# Altium integrated library Analog Devices Switches and Multiplexers Multiplexers (Muxes).IntLib: 481 symbols (part 19 of 23)
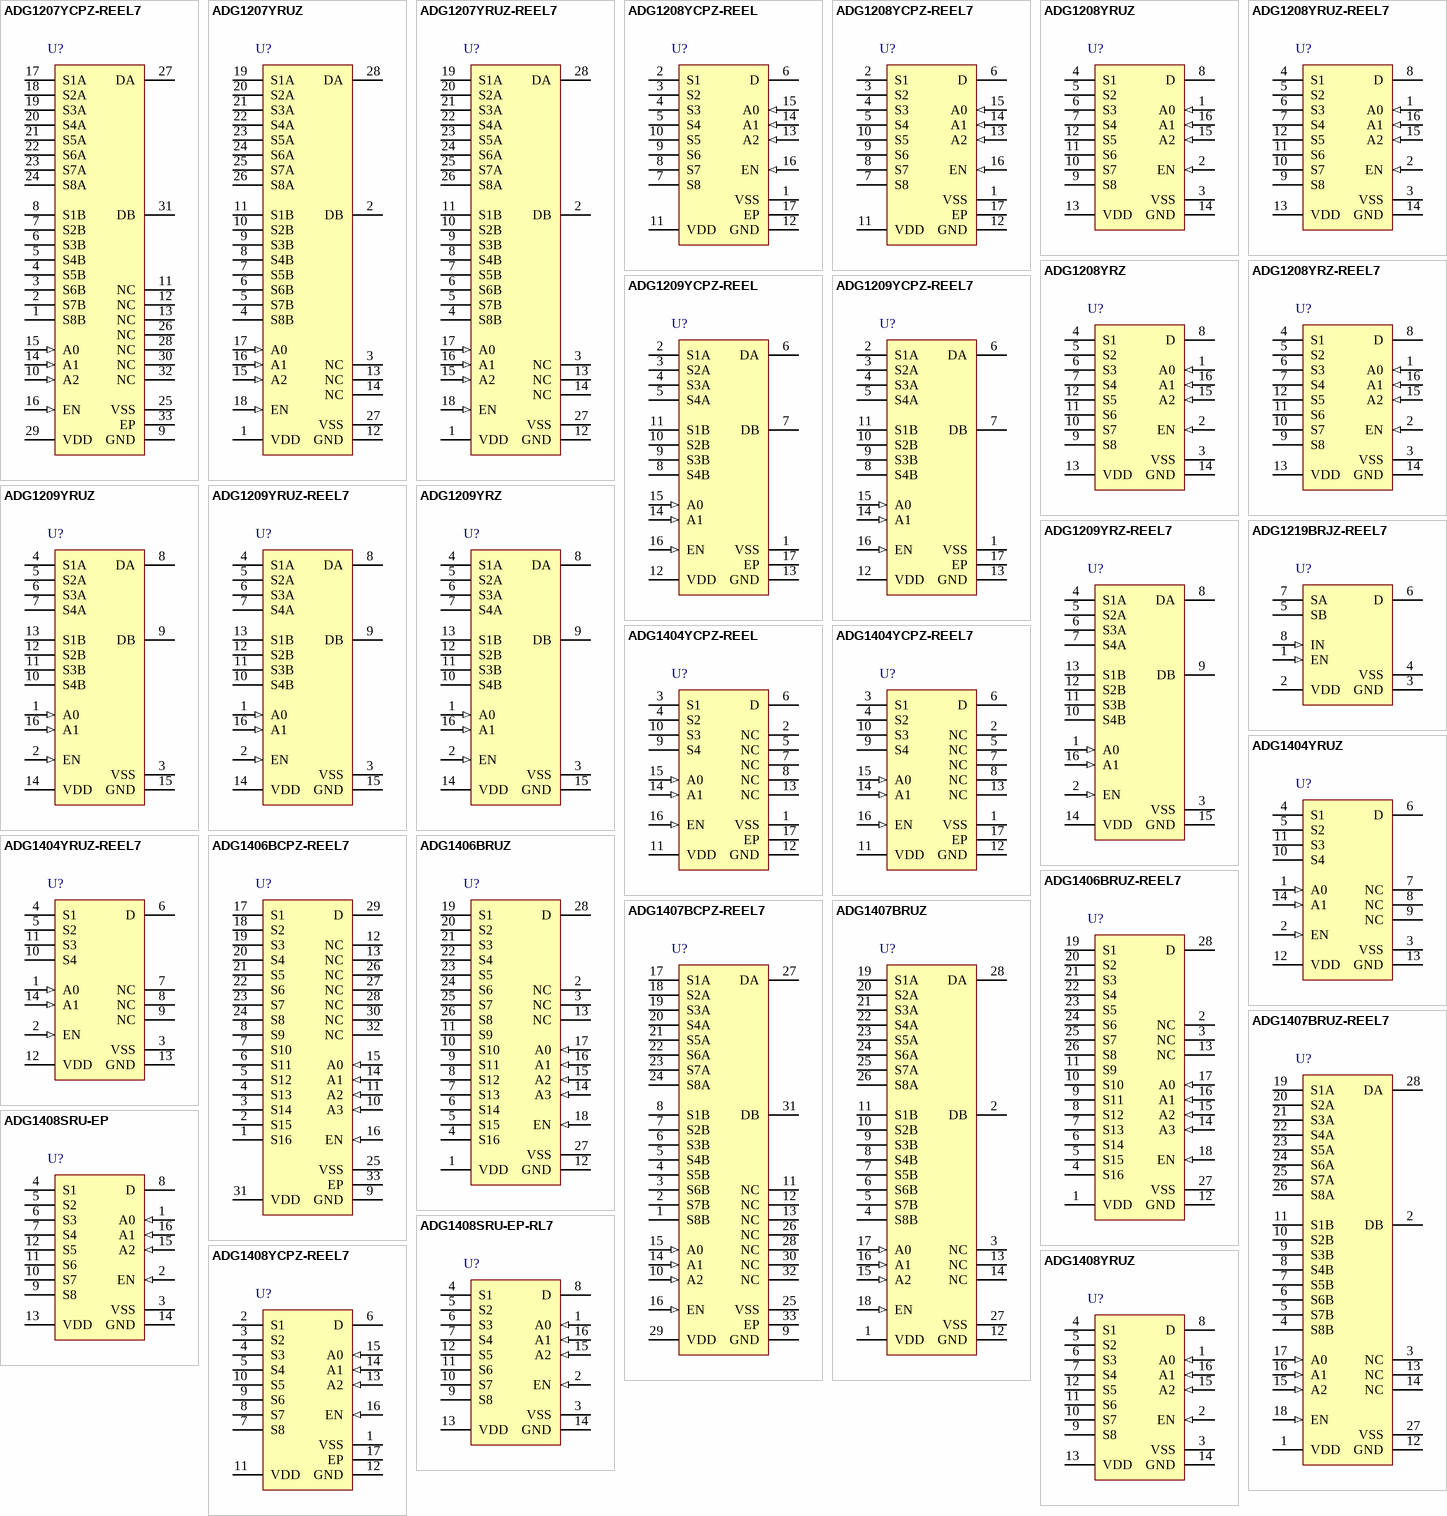
[diagram p35: symbols ADG1207YCPZ-REEL7 to ADG1408YRUZ]

## ADG1207YCPZ-REEL7
designator U?
Low Capacitance, 8-Channel +/-15 V / +12 V iCMOS(TM) Multiplexer, 120 Ohm Ron, 32-pin QFN (CP-32-2), Reel; Manufacturer: Analog Devices; PartNumber: ADG1207YCPZ-REEL7; Bandwidth (Hz): 490M, 300M; Max Analog Signal Range: Vss to Vdd; Ron (ohms): 120; t transition (s): 80n; DatasheetVersion: Rev. A; PackageVersion: Jan-05; PackageReference: CP-32-2; PackageDescription: 32-Pin Lead Frame Chip Scale Package, Body 5 x 5 mm, Pitch 0.5 mm; Supplier 1: Digi-Key; Supplier Part Number 1: ADG1207YCPZ-REEL7TR-ND; Supplier 2: Digi-Key; Supplier Part Number 2: ADG1207YCPZ-REEL7CT-ND; Supplier 3: Digi-Key; Supplier Part Number 3: ADG1207YCPZ-REEL7DKR-ND; Supplier 4: Mouser; Supplier Part Number 4: 584-ADG1207YCPZ-R7; Packing: Reel; Mounting Technology: Surface Mount; Code_JEDEC: MO-220-VHHD-2; ComponentLink1Description: Manufacturer URL; ComponentLink1URL: http://www.analog.com/en/index.html; ComponentLink2Description: Datasheet; ComponentLink2URL: http://www.analog.com/static/imported-files/data_sheets/ADG1206_1207.pdf; ComponentLink3Description: Package Specification; ComponentLink3URL: http://www.analog.com/static/imported-files/packages/414143737956480539664569CP_32_2.pdf
footprint ADI-CP-32-2_N (QFN, 32-Leads, Body 5x5mm, Pitch 0.5mm, Thermal Pad 3.1x3.1mm, IPC Medium Density)
footprint ADI-CP-32-2_L (QFN, 32-Leads, Body 5x5mm, Pitch 0.5mm, Thermal Pad 3.1x3.1mm, IPC High Density)
footprint ADI-CP-32-2_M (QFN, 32-Leads, Body 5x5mm, Pitch 0.5mm, Thermal Pad 3.1x3.1mm, IPC Low Density)
pins: 1 S8B "Source Terminal 8B. Can be an input or an output.", 2 S7B "Source Terminal 7B. Can be an input or an output.", 3 S6B "Source Terminal 6B. Can be an input or an output.", 4 S5B "Source Terminal 5B. Can be an input or an output.", 5 S4B "Source Terminal 4B. Can be an input or an output.", 6 S3B "Source Terminal 3B. Can be an input or an output.", 7 S2B "Source Terminal 2B. Can be an input or an output.", 8 S1B "Source Terminal 1B. Can be an input or an output.", 9 GND (power) "Ground (0 V) Reference.", 10 A2 (in) "Logic Control Input.", 11 NC "No Connect.", 12 NC "No Connect.", 13 NC "No Connect.", 14 A1 (in) "Logic Control Input.", 15 A0 (in) "Logic Control Input.", 16 EN (in) "Active High Digital Input. When this pin is low, the device is disabled and all switches are turned off. When this pin is high, the Ax logic inputs determine which switch is turned on.", 17 S1A "Source Terminal 1A. Can be an input or an output.", 18 S2A "Source Terminal 2A. Can be an input or an output.", 19 S3A "Source Terminal 3A. Can be an input or an output.", 20 S4A "Source Terminal 4A. Can be an input or an output.", 21 S5A "Source Terminal 5A. Can be an input or an output.", 22 S6A "Source Terminal 6A. Can be an input or an output.", 23 S7A "Source Terminal 7A. Can be an input or an output.", 24 S8A "Source Terminal 8A. Can be an input or an output.", 25 VSS (power) "Most Negative Power Supply Potential. In single-supply applications, this pin can be connected to ground.", 26 NC "No Connect.", 27 DA "Drain Terminal A. Can be an input or an output.", 28 NC "No Connect.", 29 VDD (power) "Most Positive Power Supply Potential.", 30 NC "No Connect.", 31 DB "Drain Terminal B. Can be an input or an output.", 32 NC "No Connect.", 33 EP (power) "Exposed Pad Tied to Substrate, Vss."

## ADG1207YRUZ
designator U?
Low Capacitance, 8-Channel +/-15 V / +12 V iCMOS(TM) Multiplexer, 120 Ohm Ron, 28-pin SOP (RU-28), Tube; Manufacturer: Analog Devices; PartNumber: ADG1207YRUZ; Bandwidth (Hz): 490M, 300M; Max Analog Signal Range: Vss to Vdd; Ron (ohms): 120; t transition (s): 80n; DatasheetVersion: Rev. A; PackageVersion: Mar-05; PackageReference: RU-28; PackageDescription: 28-Pin Thin Shrink Small Outline Package, Body 9.7 x 4.4 mm, Pitch 0.65 mm; Supplier 1: Digi-Key; Supplier Part Number 1: ADG1207YRUZ-ND; Supplier 2: Farnell; Supplier Part Number 2: 1438937; Supplier 3: Newark; Supplier Part Number 3: 46M5167; Supplier 4: Mouser; Supplier Part Number 4: 584-ADG1207YRUZ; Packing: Tube; Mounting Technology: Surface Mount; Code_JEDEC: MO-153-AE; ComponentLink1Description: Manufacturer URL; ComponentLink1URL: http://www.analog.com/en/index.html; ComponentLink2Description: Datasheet; ComponentLink2URL: http://www.analog.com/static/imported-files/data_sheets/ADG1206_1207.pdf; ComponentLink3Description: Package Specification; ComponentLink3URL: http://www.analog.com/static/imported-files/packages/249854663RU_28.pdf
footprint ADI-RU-28_N (SOP, 28-Leads, Body 9.7x4.4mm, Pitch 0.65mm, IPC Medium Density)
footprint ADI-RU-28_L (SOP, 28-Leads, Body 9.7x4.4mm, Pitch 0.65mm, IPC High Density)
footprint ADI-RU-28_M (SOP, 28-Leads, Body 9.7x4.4mm, Pitch 0.65mm, IPC Low Density)
pins: 1 VDD (power) "Most Positive Power Supply Potential.", 2 DB "Drain Terminal B. Can be an input or an output.", 3 NC "No Connect.", 4 S8B "Source Terminal 8B. Can be an input or an output.", 5 S7B "Source Terminal 7B. Can be an input or an output.", 6 S6B "Source Terminal 6B. Can be an input or an output.", 7 S5B "Source Terminal 5B. Can be an input or an output.", 8 S4B "Source Terminal 4B. Can be an input or an output.", 9 S3B "Source Terminal 3B. Can be an input or an output.", 10 S2B "Source Terminal 2B. Can be an input or an output.", 11 S1B "Source Terminal 1B. Can be an input or an output.", 12 GND (power) "Ground (0 V) Reference.", 13 NC "No Connect.", 14 NC "No Connect.", 15 A2 (in) "Logic Control Input.", 16 A1 (in) "Logic Control Input.", 17 A0 (in) "Logic Control Input.", 18 EN (in) "Active High Digital Input. When this pin is low, the device is disabled and all switches are turned off. When this pin is high, the Ax logic inputs determine which switch is turned on.", 19 S1A "Source Terminal 1A. Can be an input or an output.", 20 S2A "Source Terminal 2A. Can be an input or an output.", 21 S3A "Source Terminal 3A. Can be an input or an output.", 22 S4A "Source Terminal 4A. Can be an input or an output.", 23 S5A "Source Terminal 5A. Can be an input or an output.", 24 S6A "Source Terminal 6A. Can be an input or an output.", 25 S7A "Source Terminal 7A. Can be an input or an output.", 26 S8A "Source Terminal 8A. Can be an input or an output.", 27 VSS (power) "Most Negative Power Supply Potential. In single-supply applications, this pin can be connected to ground.", 28 DA "Drain Terminal A. Can be an input or an output."

## ADG1207YRUZ-REEL7
designator U?
Low Capacitance, 8-Channel +/-15 V / +12 V iCMOS(TM) Multiplexer, 120 Ohm Ron, 28-pin SOP (RU-28), Reel; Manufacturer: Analog Devices; PartNumber: ADG1207YRUZ-REEL7; Bandwidth (Hz): 490M, 300M; Max Analog Signal Range: Vss to Vdd; Ron (ohms): 120; t transition (s): 80n; DatasheetVersion: Rev. A; PackageVersion: Mar-05; PackageReference: RU-28; PackageDescription: 28-Pin Thin Shrink Small Outline Package, Body 9.7 x 4.4 mm, Pitch 0.65 mm; Supplier 1: Digi-Key; Supplier Part Number 1: ADG1207YRUZ-REEL7-ND; Supplier 2: Newark; Supplier Part Number 2: 46M5168; Supplier 3: Mouser; Supplier Part Number 3: 584-ADG1207YRUZ-R7; Packing: Reel; Mounting Technology: Surface Mount; Code_JEDEC: MO-153-AE; ComponentLink1Description: Manufacturer URL; ComponentLink1URL: http://www.analog.com/en/index.html; ComponentLink2Description: Datasheet; ComponentLink2URL: http://www.analog.com/static/imported-files/data_sheets/ADG1206_1207.pdf; ComponentLink3Description: Package Specification; ComponentLink3URL: http://www.analog.com/static/imported-files/packages/249854663RU_28.pdf
footprint ADI-RU-28_N (SOP, 28-Leads, Body 9.7x4.4mm, Pitch 0.65mm, IPC Medium Density)
footprint ADI-RU-28_L (SOP, 28-Leads, Body 9.7x4.4mm, Pitch 0.65mm, IPC High Density)
footprint ADI-RU-28_M (SOP, 28-Leads, Body 9.7x4.4mm, Pitch 0.65mm, IPC Low Density)
pins: 1 VDD (power) "Most Positive Power Supply Potential.", 2 DB "Drain Terminal B. Can be an input or an output.", 3 NC "No Connect.", 4 S8B "Source Terminal 8B. Can be an input or an output.", 5 S7B "Source Terminal 7B. Can be an input or an output.", 6 S6B "Source Terminal 6B. Can be an input or an output.", 7 S5B "Source Terminal 5B. Can be an input or an output.", 8 S4B "Source Terminal 4B. Can be an input or an output.", 9 S3B "Source Terminal 3B. Can be an input or an output.", 10 S2B "Source Terminal 2B. Can be an input or an output.", 11 S1B "Source Terminal 1B. Can be an input or an output.", 12 GND (power) "Ground (0 V) Reference.", 13 NC "No Connect.", 14 NC "No Connect.", 15 A2 (in) "Logic Control Input.", 16 A1 (in) "Logic Control Input.", 17 A0 (in) "Logic Control Input.", 18 EN (in) "Active High Digital Input. When this pin is low, the device is disabled and all switches are turned off. When this pin is high, the Ax logic inputs determine which switch is turned on.", 19 S1A "Source Terminal 1A. Can be an input or an output.", 20 S2A "Source Terminal 2A. Can be an input or an output.", 21 S3A "Source Terminal 3A. Can be an input or an output.", 22 S4A "Source Terminal 4A. Can be an input or an output.", 23 S5A "Source Terminal 5A. Can be an input or an output.", 24 S6A "Source Terminal 6A. Can be an input or an output.", 25 S7A "Source Terminal 7A. Can be an input or an output.", 26 S8A "Source Terminal 8A. Can be an input or an output.", 27 VSS (power) "Most Negative Power Supply Potential. In single-supply applications, this pin can be connected to ground.", 28 DA "Drain Terminal A. Can be an input or an output."

## ADG1208YCPZ-REEL
designator U?
Low Capacitance, 8-Channel, +/-15 V / +12 V iCMOS Multiplexer, 120 Ohm Ron, 16-pin QFN (CP-16-4), Reel; Manufacturer: Analog Devices; PartNumber: ADG1208YCPZ-REEL; Bandwidth (Hz): 550M, 450M; Max Analog Signal Range: Vss to Vdd; Ron (ohms): 120; t transition (s): 80n; DatasheetVersion: Rev. B; PackageVersion: 010606-0, 01/2006; PackageReference: CP-16-4; PackageDescription: 16-Pin Lead Frame Chip Scale Package, Body 4 x 4 mm, Pitch 0.65 mm; Supplier 1: Digi-Key; Supplier Part Number 1: ADG1208YCPZ-REEL-ND; Supplier 2: Newark; Supplier Part Number 2: 50M0767; Supplier 3: Mouser; Supplier Part Number 3: 584-ADG1208YCPZ-R; Packing: Reel; Mounting Technology: Surface Mount; Code_JEDEC: MO-220-VGGC; ComponentLink1Description: Manufacturer URL; ComponentLink1URL: http://www.analog.com/en/index.html; ComponentLink2Description: Datasheet; ComponentLink2URL: http://www.analog.com/static/imported-files/data_sheets/ADG1208_1209.pdf; ComponentLink3Description: Package Specification; ComponentLink3URL: http://www.analog.com/static/imported-files/packages/46009454504174339653421710019CP_16_4.pdf
footprint CP-16-4_N (QFN, 16-Leads, Body 4x4mm, Pitch 0.65mm, Thermal Pad 2.1x2.1mm, IPC Medium Density)
footprint CP-16-4_L (QFN, 16-Leads, Body 4x4mm, Pitch 0.65mm, Thermal Pad 2.1x2.1mm, IPC High Density)
footprint CP-16-4_M (QFN, 16-Leads, Body 4x4mm, Pitch 0.65mm, Thermal Pad 2.1x2.1mm, IPC Low Density)
pins: 1 VSS (power) "Most Negative Power Supply Potential. In single-supply applications, it can be connected to ground.", 2 S1 "Source Terminal 1. Can be an input or an output.", 3 S2 "Source Terminal 2. Can be an input or an output.", 4 S3 "Source Terminal 3. Can be an input or an output.", 5 S4 "Source Terminal 4. Can be an input or an output.", 6 D "Drain Terminal. Can be an input or an output.", 7 S8 "Source Terminal 8. Can be an input or an output.", 8 S7 "Source Terminal 7. Can be an input or an output.", 9 S6 "Source Terminal 6. Can be an input or an output.", 10 S5 "Source Terminal 5. Can be an input or an output.", 11 VDD (power) "Most Positive Power Supply Potential.", 12 GND (power) "Ground (0 V) Reference.", 13 A2 (in) "Logic Control Input.", 14 A1 (in) "Logic Control Input.", 15 A0 (in) "Logic Control Input.", 16 EN (in) "Active High Digital Input. When low, the device is disabled and all switches are off. When high, Ax logic inputs determine on switches.", 17 EP (power) "Exposed Pad Tied to Substrate, VSS"

## ADG1208YCPZ-REEL7
designator U?
Low Capacitance, 8-Channel, +/-15 V / +12 V iCMOS Multiplexer, 120 Ohm Ron, 16-pin QFN (CP-16-4), Reel; Manufacturer: Analog Devices; PartNumber: ADG1208YCPZ-REEL7; Bandwidth (Hz): 550M, 450M; Max Analog Signal Range: Vss to Vdd; Ron (ohms): 120; t transition (s): 80n; DatasheetVersion: Rev. B; PackageVersion: 010606-0, 01/2006; PackageReference: CP-16-4; PackageDescription: 16-Pin Lead Frame Chip Scale Package, Body 4 x 4 mm, Pitch 0.65 mm; Supplier 1: Digi-Key; Supplier Part Number 1: ADG1208YCPZ-REEL7TR-ND; Supplier 2: Digi-Key; Supplier Part Number 2: ADG1208YCPZ-REEL7CT-ND; Supplier 3: Digi-Key; Supplier Part Number 3: ADG1208YCPZ-REEL7DKR-ND; Supplier 4: Farnell; Supplier Part Number 4: 2312930; Supplier 5: Newark; Supplier Part Number 5: 50M0768; Supplier 6: Newark; Supplier Part Number 6: 67W3112; Supplier 7: Mouser; Supplier Part Number 7: 584-ADG1208YCPZ-R7; Packing: Reel; Mounting Technology: Surface Mount; Code_JEDEC: MO-220-VGGC; ComponentLink1Description: Manufacturer URL; ComponentLink1URL: http://www.analog.com/en/index.html; ComponentLink2Description: Datasheet; ComponentLink2URL: http://www.analog.com/static/imported-files/data_sheets/ADG1208_1209.pdf; ComponentLink3Description: Package Specification; ComponentLink3URL: http://www.analog.com/static/imported-files/packages/46009454504174339653421710019CP_16_4.pdf
footprint CP-16-4_N (QFN, 16-Leads, Body 4x4mm, Pitch 0.65mm, Thermal Pad 2.1x2.1mm, IPC Medium Density)
footprint CP-16-4_L (QFN, 16-Leads, Body 4x4mm, Pitch 0.65mm, Thermal Pad 2.1x2.1mm, IPC High Density)
footprint CP-16-4_M (QFN, 16-Leads, Body 4x4mm, Pitch 0.65mm, Thermal Pad 2.1x2.1mm, IPC Low Density)
pins: 1 VSS (power) "Most Negative Power Supply Potential. In single-supply applications, it can be connected to ground.", 2 S1 "Source Terminal 1. Can be an input or an output.", 3 S2 "Source Terminal 2. Can be an input or an output.", 4 S3 "Source Terminal 3. Can be an input or an output.", 5 S4 "Source Terminal 4. Can be an input or an output.", 6 D "Drain Terminal. Can be an input or an output.", 7 S8 "Source Terminal 8. Can be an input or an output.", 8 S7 "Source Terminal 7. Can be an input or an output.", 9 S6 "Source Terminal 6. Can be an input or an output.", 10 S5 "Source Terminal 5. Can be an input or an output.", 11 VDD (power) "Most Positive Power Supply Potential.", 12 GND (power) "Ground (0 V) Reference.", 13 A2 (in) "Logic Control Input.", 14 A1 (in) "Logic Control Input.", 15 A0 (in) "Logic Control Input.", 16 EN (in) "Active High Digital Input. When low, the device is disabled and all switches are off. When high, Ax logic inputs determine on switches.", 17 EP (power) "Exposed Pad Tied to Substrate, VSS"

## ADG1208YRUZ
designator U?
Low Capacitance, 8-Channel, +/-15 V / +12 V iCMOS Multiplexer, 120 Ohm Ron, 16-pin SOP (RU-16), Tube; Manufacturer: Analog Devices; PartNumber: ADG1208YRUZ; Bandwidth (Hz): 550M, 450M; Max Analog Signal Range: Vss to Vdd; Ron (ohms): 120; t transition (s): 80n; DatasheetVersion: Rev. B; PackageVersion: Nov-02; PackageReference: RU-16; PackageDescription: 16-Pin Thin Shrink Small Outline Package, Body 5 x 4.4 mm, Pitch 0.65 mm; Supplier 1: Digi-Key; Supplier Part Number 1: ADG1208YRUZ-ND; Supplier 2: Farnell; Supplier Part Number 2: 2102514; Supplier 3: Newark; Supplier Part Number 3: 50M0769; Supplier 4: Mouser; Supplier Part Number 4: 584-ADG1208YRUZ; Packing: Tube; Mounting Technology: Surface Mount; Code_JEDEC: MO-153AB; ComponentLink1Description: Manufacturer URL; ComponentLink1URL: http://www.analog.com/en/index.html; ComponentLink2Description: Datasheet; ComponentLink2URL: http://www.analog.com/static/imported-files/data_sheets/ADG1208_1209.pdf; ComponentLink3Description: Package Specification; ComponentLink3URL: http:/www.analog.com/static/imported-files/packages/36244347913743854010197452789RU16.pdf
footprint ADI-RU-16_N (SOP, 16-Leads, Body 5x4.4mm, Pitch 0.65mm, IPC Medium Density)
footprint ADI-RU-16_L (SOP, 16-Leads, Body 5x4.4mm, Pitch 0.65mm, IPC High Density)
footprint ADI-RU-16_M (SOP, 16-Leads, Body 5x4.4mm, Pitch 0.65mm, IPC Low Density)
pins: 1 A0 (in) "Logic Control Input.", 2 EN (in) "Active High Digital Input. When low, the device is disabled and all switches are off.When high, Ax logic inputs determine on switches.", 3 VSS (power) "Most Negative Power Supply Potential in Dual Supplies. In single-supply applications,it can be connected to ground.", 4 S1 "Source Terminal 1. Can be an input or an output.", 5 S2 "Source Terminal 2. Can be an input or an output.", 6 S3 "Source Terminal 3. Can be an input or an output.", 7 S4 "Source Terminal 4. Can be an input or an output.", 8 D "Drain Terminal. Can be an input or an output.", 9 S8 "Source Terminal 8. Can be an input or an output.", 10 S7 "Source Terminal 7. Can be an input or an output.", 11 S6 "Source Terminal 6. Can be an input or an output.", 12 S5 "Source Terminal 5. Can be an input or an output.", 13 VDD (power) "Most Positive Power Supply Potential.", 14 GND (power) "Ground (0 V) Reference.", 15 A2 (in) "Logic Control Input.", 16 A1 (in) "Logic Control Input."

## ADG1208YRUZ-REEL7
designator U?
Low Capacitance, 8-Channel, +/-15 V / +12 V iCMOS Multiplexer, 120 Ohm Ron, 16-pin SOP (RU-16), Reel; Manufacturer: Analog Devices; PartNumber: ADG1208YRUZ-REEL7; Bandwidth (Hz): 550M, 450M; Max Analog Signal Range: Vss to Vdd; Ron (ohms): 120; t transition (s): 80n; DatasheetVersion: Rev. B; PackageVersion: Nov-02; PackageReference: RU-16; PackageDescription: 16-Pin Thin Shrink Small Outline Package, Body 5 x 4.4 mm, Pitch 0.65 mm; Supplier 1: Digi-Key; Supplier Part Number 1: ADG1208YRUZ-REEL7TR-ND; Supplier 2: Digi-Key; Supplier Part Number 2: ADG1208YRUZ-REEL7CT-ND; Supplier 3: Digi-Key; Supplier Part Number 3: ADG1208YRUZ-REEL7DKR-ND; Supplier 4: Mouser; Supplier Part Number 4: 584-ADG1208YRUZ-R7; Packing: Reel; Mounting Technology: Surface Mount; Code_JEDEC: MO-153AB; ComponentLink1Description: Manufacturer URL; ComponentLink1URL: http://www.analog.com/en/index.html; ComponentLink2Description: Datasheet; ComponentLink2URL: http://www.analog.com/static/imported-files/data_sheets/ADG1208_1209.pdf; ComponentLink3Description: Package Specification; ComponentLink3URL: http:/www.analog.com/static/imported-files/packages/36244347913743854010197452789RU16.pdf
footprint ADI-RU-16_N (SOP, 16-Leads, Body 5x4.4mm, Pitch 0.65mm, IPC Medium Density)
footprint ADI-RU-16_L (SOP, 16-Leads, Body 5x4.4mm, Pitch 0.65mm, IPC High Density)
footprint ADI-RU-16_M (SOP, 16-Leads, Body 5x4.4mm, Pitch 0.65mm, IPC Low Density)
pins: 1 A0 (in) "Logic Control Input.", 2 EN (in) "Active High Digital Input. When low, the device is disabled and all switches are off.When high, Ax logic inputs determine on switches.", 3 VSS (power) "Most Negative Power Supply Potential in Dual Supplies. In single-supply applications,it can be connected to ground.", 4 S1 "Source Terminal 1. Can be an input or an output.", 5 S2 "Source Terminal 2. Can be an input or an output.", 6 S3 "Source Terminal 3. Can be an input or an output.", 7 S4 "Source Terminal 4. Can be an input or an output.", 8 D "Drain Terminal. Can be an input or an output.", 9 S8 "Source Terminal 8. Can be an input or an output.", 10 S7 "Source Terminal 7. Can be an input or an output.", 11 S6 "Source Terminal 6. Can be an input or an output.", 12 S5 "Source Terminal 5. Can be an input or an output.", 13 VDD (power) "Most Positive Power Supply Potential.", 14 GND (power) "Ground (0 V) Reference.", 15 A2 (in) "Logic Control Input.", 16 A1 (in) "Logic Control Input."

## ADG1208YRZ
designator U?
Low Capacitance, 8-Channel, +/-15 V / +12 V iCMOS Multiplexer, 120 Ohm Ron, 16-pin SOIC (R-16), Tube; Manufacturer: Analog Devices; PartNumber: ADG1208YRZ; Bandwidth (Hz): 550M, 450M; Max Analog Signal Range: Vss to Vdd; Ron (ohms): 120; t transition (s): 80n; DatasheetVersion: Rev. B; PackageVersion: 060606-A, 06/2006; PackageReference: R-16; PackageDescription: 16-Pin Standard Small Outline Package, Body 9.9 x 3.9 mm, Pitch 1.27 mm; Supplier 1: Digi-Key; Supplier Part Number 1: ADG1208YRZ-ND; Supplier 2: Farnell; Supplier Part Number 2: 1438938; Supplier 3: Newark; Supplier Part Number 3: 41M1907; Supplier 4: Mouser; Supplier Part Number 4: 584-ADG1208YRZ; Packing: Tube; Mounting Technology: Surface Mount; Code_JEDEC: MS-012-AC; ComponentLink1Description: Manufacturer URL; ComponentLink1URL: http://www.analog.com/en/index.html; ComponentLink2Description: Datasheet; ComponentLink2URL: http://www.analog.com/static/imported-files/data_sheets/ADG1208_1209.pdf; ComponentLink3Description: Package Specification; ComponentLink3URL: http://www.analog.com/static/imported-files/packages/PKG_PDF/SOIC_Narrow%20(R)/R_16.pdf
footprint ADI-R-16_N (SOIC, 16-Leads, Body 9.9x3.9mm, Pitch 1.27mm, IPC Medium Density)
footprint ADI-R-16_L (SOIC, 16-Leads, Body 9.9x3.9mm, Pitch 1.27mm, IPC High Density)
footprint ADI-R-16_M (SOIC, 16-Leads, Body 9.9x3.9mm, Pitch 1.27mm, IPC Low Density)
pins: 1 A0 (in) "Logic Control Input.", 2 EN (in) "Active High Digital Input. When low, the device is disabled and all switches are off. When high, Ax logic inputs determine on switches.", 3 VSS (power) "Most Negative Power Supply Potential. In single-supply applications, it can be connected to ground.", 4 S1 "Source Terminal 1. Can be an input or an output.", 5 S2 "Source Terminal 2. Can be an input or an output.", 6 S3 "Source Terminal 3. Can be an input or an output.", 7 S4 "Source Terminal 4. Can be an input or an output.", 8 D "Drain Terminal. Can be an input or an output.", 9 S8 "Source Terminal 8. Can be an input or an output.", 10 S7 "Source Terminal 7. Can be an input or an output.", 11 S6 "Source Terminal 6. Can be an input or an output.", 12 S5 "Source Terminal 5. Can be an input or an output.", 13 VDD (power) "Most Positive Power Supply Potential.", 14 GND (power) "Ground (0 V) Reference.", 15 A2 (in) "Logic Control Input.", 16 A1 (in) "Logic Control Input."

## ADG1208YRZ-REEL7
designator U?
Low Capacitance, 8-Channel, +/-15 V / +12 V iCMOS Multiplexer, 120 Ohm Ron, 16-pin SOIC (R-16), Reel; Manufacturer: Analog Devices; PartNumber: ADG1208YRZ-REEL7; Bandwidth (Hz): 550M, 450M; Max Analog Signal Range: Vss to Vdd; Ron (ohms): 120; t transition (s): 80n; DatasheetVersion: Rev. B; PackageVersion: 060606-A, 06/2006; PackageReference: R-16; PackageDescription: 16-Pin Standard Small Outline Package, Body 9.9 x 3.9 mm, Pitch 1.27 mm; Supplier 1: Digi-Key; Supplier Part Number 1: ADG1208YRZ-REEL7-ND; Supplier 2: Newark; Supplier Part Number 2: 41M1908; Supplier 3: Mouser; Supplier Part Number 3: 584-ADG1208YRZ-R7; Packing: Reel; Mounting Technology: Surface Mount; Code_JEDEC: MS-012-AC; ComponentLink1Description: Manufacturer URL; ComponentLink1URL: http://www.analog.com/en/index.html; ComponentLink2Description: Datasheet; ComponentLink2URL: http://www.analog.com/static/imported-files/data_sheets/ADG1208_1209.pdf; ComponentLink3Description: Package Specification; ComponentLink3URL: http://www.analog.com/static/imported-files/packages/PKG_PDF/SOIC_Narrow%20(R)/R_16.pdf
footprint ADI-R-16_N (SOIC, 16-Leads, Body 9.9x3.9mm, Pitch 1.27mm, IPC Medium Density)
footprint ADI-R-16_L (SOIC, 16-Leads, Body 9.9x3.9mm, Pitch 1.27mm, IPC High Density)
footprint ADI-R-16_M (SOIC, 16-Leads, Body 9.9x3.9mm, Pitch 1.27mm, IPC Low Density)
pins: 1 A0 (in) "Logic Control Input.", 2 EN (in) "Active High Digital Input. When low, the device is disabled and all switches are off. When high, Ax logic inputs determine on switches.", 3 VSS (power) "Most Negative Power Supply Potential. In single-supply applications, it can be connected to ground.", 4 S1 "Source Terminal 1. Can be an input or an output.", 5 S2 "Source Terminal 2. Can be an input or an output.", 6 S3 "Source Terminal 3. Can be an input or an output.", 7 S4 "Source Terminal 4. Can be an input or an output.", 8 D "Drain Terminal. Can be an input or an output.", 9 S8 "Source Terminal 8. Can be an input or an output.", 10 S7 "Source Terminal 7. Can be an input or an output.", 11 S6 "Source Terminal 6. Can be an input or an output.", 12 S5 "Source Terminal 5. Can be an input or an output.", 13 VDD (power) "Most Positive Power Supply Potential.", 14 GND (power) "Ground (0 V) Reference.", 15 A2 (in) "Logic Control Input.", 16 A1 (in) "Logic Control Input."

## ADG1209YCPZ-REEL
designator U?
Low Capacitance, 4-Channel, +/-15 V / +12 V iCMOS Multiplexer, 120 Ohm Ron, 16-pin QFN (CP-16-4), Reel; Manufacturer: Analog Devices; PartNumber: ADG1209YCPZ-REEL; Bandwidth (Hz): 550M, 450M; Max Analog Signal Range: Vss to Vdd; Ron (ohms): 120; t transition (s): 80n; DatasheetVersion: Rev. B; PackageVersion: 010606-0, 01/2006; PackageReference: CP-16-4; PackageDescription: 16-Pin Lead Frame Chip Scale Package, Body 4 x 4 mm, Pitch 0.65 mm; Supplier 1: Digi-Key; Supplier Part Number 1: ADG1209YCPZ-REEL-ND; Supplier 2: Mouser; Supplier Part Number 2: 584-ADG1209YCPZ-R; Packing: Reel; Mounting Technology: Surface Mount; Code_JEDEC: MO-220-VGGC; ComponentLink1Description: Manufacturer URL; ComponentLink1URL: http://www.analog.com/en/index.html; ComponentLink2Description: Datasheet; ComponentLink2URL: http://www.analog.com/static/imported-files/data_sheets/ADG1208_1209.pdf; ComponentLink3Description: Package Specification; ComponentLink3URL: http://www.analog.com/static/imported-files/packages/46009454504174339653421710019CP_16_4.pdf
footprint CP-16-4_N (QFN, 16-Leads, Body 4x4mm, Pitch 0.65mm, Thermal Pad 2.1x2.1mm, IPC Medium Density)
footprint CP-16-4_L (QFN, 16-Leads, Body 4x4mm, Pitch 0.65mm, Thermal Pad 2.1x2.1mm, IPC High Density)
footprint CP-16-4_M (QFN, 16-Leads, Body 4x4mm, Pitch 0.65mm, Thermal Pad 2.1x2.1mm, IPC Low Density)
pins: 1 VSS (power) "Most Negative Power Supply Potential. In single-supply applications, it can be connected to ground.", 2 S1A "Source Terminal 1A. Can be an input or an output.", 3 S2A "Source Terminal 2A. Can be an input or an output.", 4 S3A "Source Terminal 3A. Can be an input or an output.", 5 S4A "Source Terminal 4A. Can be an input or an output.", 6 DA "Drain Terminal A. Can be an input or an output.", 7 DB "Drain Terminal B. Can be an input or an output.", 8 S4B "Source Terminal 4B. Can be an input or an output.", 9 S3B "Source Terminal 3B. Can be an input or an output.", 10 S2B "Source Terminal 2B. Can be an input or an output.", 11 S1B "Source Terminal 1B. Can be an input or an output.", 12 VDD (power) "Most Positive Power Supply Potential.", 13 GND (power) "Ground (0 V) Reference.", 14 A1 (in) "Logic Control Input.", 15 A0 (in) "Logic Control Input.", 16 EN (in) "Active High Digital Input. When low, the device is disabled and all switches are off. When high, Ax logic inputs determine on switches.", 17 EP (power) "Exposed Pad Tied to Substrate, VSS"

## ADG1209YCPZ-REEL7
designator U?
Low Capacitance, 4-Channel, +/-15 V / +12 V iCMOS Multiplexer, 120 Ohm Ron, 16-pin QFN (CP-16-4), Reel; Manufacturer: Analog Devices; PartNumber: ADG1209YCPZ-REEL7; Bandwidth (Hz): 550M, 450M; Max Analog Signal Range: Vss to Vdd; Ron (ohms): 120; t transition (s): 80n; DatasheetVersion: Rev. B; PackageVersion: 010606-0, 01/2006; PackageReference: CP-16-4; PackageDescription: 16-Pin Lead Frame Chip Scale Package, Body 4 x 4 mm, Pitch 0.65 mm; Supplier 1: Digi-Key; Supplier Part Number 1: ADG1209YCPZ-REEL7TR-ND; Supplier 2: Digi-Key; Supplier Part Number 2: ADG1209YCPZ-REEL7CT-ND; Supplier 3: Digi-Key; Supplier Part Number 3: ADG1209YCPZ-REEL7DKR-ND; Supplier 4: Farnell; Supplier Part Number 4: 2312932; Supplier 5: Newark; Supplier Part Number 5: 67W3113; Supplier 6: Newark; Supplier Part Number 6: 50M0772; Supplier 7: Mouser; Supplier Part Number 7: 584-ADG1209YCPZ-R7; Packing: Reel; Mounting Technology: Surface Mount; Code_JEDEC: MO-220-VGGC; ComponentLink1Description: Manufacturer URL; ComponentLink1URL: http://www.analog.com/en/index.html; ComponentLink2Description: Datasheet; ComponentLink2URL: http://www.analog.com/static/imported-files/data_sheets/ADG1208_1209.pdf; ComponentLink3Description: Package Specification; ComponentLink3URL: http://www.analog.com/static/imported-files/packages/46009454504174339653421710019CP_16_4.pdf
footprint CP-16-4_N (QFN, 16-Leads, Body 4x4mm, Pitch 0.65mm, Thermal Pad 2.1x2.1mm, IPC Medium Density)
footprint CP-16-4_L (QFN, 16-Leads, Body 4x4mm, Pitch 0.65mm, Thermal Pad 2.1x2.1mm, IPC High Density)
footprint CP-16-4_M (QFN, 16-Leads, Body 4x4mm, Pitch 0.65mm, Thermal Pad 2.1x2.1mm, IPC Low Density)
pins: 1 VSS (power) "Most Negative Power Supply Potential. In single-supply applications, it can be connected to ground.", 2 S1A "Source Terminal 1A. Can be an input or an output.", 3 S2A "Source Terminal 2A. Can be an input or an output.", 4 S3A "Source Terminal 3A. Can be an input or an output.", 5 S4A "Source Terminal 4A. Can be an input or an output.", 6 DA "Drain Terminal A. Can be an input or an output.", 7 DB "Drain Terminal B. Can be an input or an output.", 8 S4B "Source Terminal 4B. Can be an input or an output.", 9 S3B "Source Terminal 3B. Can be an input or an output.", 10 S2B "Source Terminal 2B. Can be an input or an output.", 11 S1B "Source Terminal 1B. Can be an input or an output.", 12 VDD (power) "Most Positive Power Supply Potential.", 13 GND (power) "Ground (0 V) Reference.", 14 A1 (in) "Logic Control Input.", 15 A0 (in) "Logic Control Input.", 16 EN (in) "Active High Digital Input. When low, the device is disabled and all switches are off. When high, Ax logic inputs determine on switches.", 17 EP (power) "Exposed Pad Tied to Substrate, VSS"

## ADG1209YRUZ
designator U?
Low Capacitance, 4-Channel, +/-15 V / +12 V iCMOS Multiplexer, 120 Ohm Ron, 16-pin SOP (RU-16), Tube; Manufacturer: Analog Devices; PartNumber: ADG1209YRUZ; Bandwidth (Hz): 550M, 450M; Max Analog Signal Range: Vss to Vdd; Ron (ohms): 120; t transition (s): 80n; DatasheetVersion: Rev. B; PackageVersion: Nov-02; PackageReference: RU-16; PackageDescription: 16-Pin Thin Shrink Small Outline Package, Body 5 x 4.4 mm, Pitch 0.65 mm; Supplier 1: Digi-Key; Supplier Part Number 1: ADG1209YRUZ-ND; Supplier 2: Farnell; Supplier Part Number 2: 2377065; Supplier 3: Newark; Supplier Part Number 3: 23X5938; Supplier 4: Newark; Supplier Part Number 4: 18T1958; Supplier 5: Mouser; Supplier Part Number 5: 584-ADG1209YRUZ; Packing: Tube; Mounting Technology: Surface Mount; Code_JEDEC: MO-153AB; ComponentLink1Description: Manufacturer URL; ComponentLink1URL: http://www.analog.com/en/index.html; ComponentLink2Description: Datasheet; ComponentLink2URL: http://www.analog.com/static/imported-files/data_sheets/ADG1208_1209.pdf; ComponentLink3Description: Package Specification; ComponentLink3URL: http:/www.analog.com/static/imported-files/packages/36244347913743854010197452789RU16.pdf
footprint ADI-RU-16_N (SOP, 16-Leads, Body 5x4.4mm, Pitch 0.65mm, IPC Medium Density)
footprint ADI-RU-16_L (SOP, 16-Leads, Body 5x4.4mm, Pitch 0.65mm, IPC High Density)
footprint ADI-RU-16_M (SOP, 16-Leads, Body 5x4.4mm, Pitch 0.65mm, IPC Low Density)
pins: 1 A0 (in) "Logic Control Input.", 2 EN (in) "Active High Digital Input. When low, the device is disabled and all switches are off. When  high, Ax logic inputs determine on switches.", 3 VSS (power) "Most Negative Power Supply Potential. In single-supply applications, it can be connected to ground.", 4 S1A "Source Terminal 1A. Can be an input or an output.", 5 S2A "Source Terminal 2A. Can be an input or an output.", 6 S3A "Source Terminal 3A. Can be an input or an output.", 7 S4A "Source Terminal 4A. Can be an input or an output.", 8 DA "Drain TerminalA. Can be an input or an output.", 9 DB "Drain Terminal B. Can be an input or an output.", 10 S4B "Source Terminal 4B. Can be an input or an output.", 11 S3B "Source Terminal 3B. Can be an input or an output.", 12 S2B "Source Terminal 2B. Can be an input or an output.", 13 S1B "Source Terminal 1B. Can be an input or an output.", 14 VDD (power) "Most Positive Power Supply Potential.", 15 GND (power) "Ground (0 V) Reference.", 16 A1 (in) "Logic Control Input."

## ADG1209YRUZ-REEL7
designator U?
Low Capacitance, 4-Channel, +/-15 V / +12 V iCMOS Multiplexer, 120 Ohm Ron, 16-pin SOP (RU-16), Reel; Manufacturer: Analog Devices; PartNumber: ADG1209YRUZ-REEL7; Bandwidth (Hz): 550M, 450M; Max Analog Signal Range: Vss to Vdd; Ron (ohms): 120; t transition (s): 80n; DatasheetVersion: Rev. B; PackageVersion: Nov-02; PackageReference: RU-16; PackageDescription: 16-Pin Thin Shrink Small Outline Package, Body 5 x 4.4 mm, Pitch 0.65 mm; Supplier 1: Digi-Key; Supplier Part Number 1: ADG1209YRUZ-REEL7-ND; Supplier 2: Mouser; Supplier Part Number 2: 584-ADG1209YRUZ-R7; Packing: Reel; Mounting Technology: Surface Mount; Code_JEDEC: MO-153AB; ComponentLink1Description: Manufacturer URL; ComponentLink1URL: http://www.analog.com/en/index.html; ComponentLink2Description: Datasheet; ComponentLink2URL: http://www.analog.com/static/imported-files/data_sheets/ADG1208_1209.pdf; ComponentLink3Description: Package Specification; ComponentLink3URL: http:/www.analog.com/static/imported-files/packages/36244347913743854010197452789RU16.pdf
footprint ADI-RU-16_N (SOP, 16-Leads, Body 5x4.4mm, Pitch 0.65mm, IPC Medium Density)
footprint ADI-RU-16_L (SOP, 16-Leads, Body 5x4.4mm, Pitch 0.65mm, IPC High Density)
footprint ADI-RU-16_M (SOP, 16-Leads, Body 5x4.4mm, Pitch 0.65mm, IPC Low Density)
pins: 1 A0 (in) "Logic Control Input.", 2 EN (in) "Active High Digital Input. When low, the device is disabled and all switches are off. When  high, Ax logic inputs determine on switches.", 3 VSS (power) "Most Negative Power Supply Potential. In single-supply applications, it can be connected to ground.", 4 S1A "Source Terminal 1A. Can be an input or an output.", 5 S2A "Source Terminal 2A. Can be an input or an output.", 6 S3A "Source Terminal 3A. Can be an input or an output.", 7 S4A "Source Terminal 4A. Can be an input or an output.", 8 DA "Drain TerminalA. Can be an input or an output.", 9 DB "Drain Terminal B. Can be an input or an output.", 10 S4B "Source Terminal 4B. Can be an input or an output.", 11 S3B "Source Terminal 3B. Can be an input or an output.", 12 S2B "Source Terminal 2B. Can be an input or an output.", 13 S1B "Source Terminal 1B. Can be an input or an output.", 14 VDD (power) "Most Positive Power Supply Potential.", 15 GND (power) "Ground (0 V) Reference.", 16 A1 (in) "Logic Control Input."

## ADG1209YRZ
designator U?
Low Capacitance, 4 Channel, +/-15 V / +12 V iCMOS Multiplexer, 120 Ohm Ron, 16-pin SOIC (R-16), Tube; Manufacturer: Analog Devices; PartNumber: ADG1209YRZ; Bandwidth (Hz): 550M, 450M; Max Analog Signal Range: Vss to Vdd; Ron (ohms): 120; t transition (s): 80n; DatasheetVersion: Rev. B; PackageVersion: 060606-A, 06/2006; PackageReference: R-16; PackageDescription: 16-Pin Standard Small Outline Package, Body 9.9 x 3.9 mm, Pitch 1.27 mm; Supplier 1: Digi-Key; Supplier Part Number 1: ADG1209YRZ-ND; Supplier 2: Farnell; Supplier Part Number 2: 1438939; Supplier 3: Newark; Supplier Part Number 3: 41M1909; Supplier 4: Mouser; Supplier Part Number 4: 584-ADG1209YRZ; Packing: Tube; Mounting Technology: Surface Mount; Code_JEDEC: MS-012-AC; ComponentLink1Description: Manufacturer URL; ComponentLink1URL: http://www.analog.com/en/index.html; ComponentLink2Description: Datasheet; ComponentLink2URL: http://www.analog.com/static/imported-files/data_sheets/ADG1208_1209.pdf; ComponentLink3Description: Package Specification; ComponentLink3URL: http://www.analog.com/static/imported-files/packages/PKG_PDF/SOIC_Narrow%20(R)/R_16.pdf
footprint ADI-R-16_N (SOIC, 16-Leads, Body 9.9x3.9mm, Pitch 1.27mm, IPC Medium Density)
footprint ADI-R-16_L (SOIC, 16-Leads, Body 9.9x3.9mm, Pitch 1.27mm, IPC High Density)
footprint ADI-R-16_M (SOIC, 16-Leads, Body 9.9x3.9mm, Pitch 1.27mm, IPC Low Density)
pins: 1 A0 (in) "Logic Control Input.", 2 EN (in) "Active High Digital Input. When low, the device is disabled and all switches are off. When high, Ax logic inputs determine on switches.", 3 VSS (power) "Most Negative Power Supply Potential.In single-supply applications, it can be connected to ground.", 4 S1A "Source Terminal 1A. Can be an input or an output.", 5 S2A "Source Terminal 2A. Can be an input or an output.", 6 S3A "Source Terminal 3A. Can be an input or an output.", 7 S4A "Source Terminal 4A. Can be an input or an output.", 8 DA "Drain Terminal A. Can be an input or an output.", 9 DB "Drain Terminal B. Can be an input or an output.", 10 S4B "Source Terminal 4B. Can be an input or an output.", 11 S3B "Source Terminal 3B. Can be an input or an output.", 12 S2B "Source Terminal 2B. Can be an input or an output.", 13 S1B "Source Terminal 1B. Can be an input or an output.", 14 VDD (power) "Most Positive Power Supply Potential.", 15 GND (power) "Ground (0 V) Reference.", 16 A1 (in) "Logic Control Input."

## ADG1209YRZ-REEL7
designator U?
Low Capacitance, 4-Channel, +/-15 V / +12 V iCMOS Multiplexer, 120 Ohm Ron, 16-pin SOIC (R-16), Reel; Manufacturer: Analog Devices; PartNumber: ADG1209YRZ-REEL7; Bandwidth (Hz): 550M, 450M; Max Analog Signal Range: Vss to Vdd; Ron (ohms): 120; t transition (s): 80n; DatasheetVersion: Rev. B; PackageVersion: 060606-A, 06/2006; PackageReference: R-16; PackageDescription: 16-Pin Standard Small Outline Package, Body 9.9 x 3.9 mm, Pitch 1.27 mm; Supplier 1: Digi-Key; Supplier Part Number 1: ADG1209YRZ-REEL7-ND; Supplier 2: Newark; Supplier Part Number 2: 41M1910; Supplier 3: Mouser; Supplier Part Number 3: 584-ADG1209YRZ-R7; Packing: Reel; Mounting Technology: Surface Mount; Code_JEDEC: MS-012-AC; ComponentLink1Description: Manufacturer URL; ComponentLink1URL: http://www.analog.com/en/index.html; ComponentLink2Description: Datasheet; ComponentLink2URL: http://www.analog.com/static/imported-files/data_sheets/ADG1208_1209.pdf; ComponentLink3Description: Package Specification; ComponentLink3URL: http://www.analog.com/static/imported-files/packages/PKG_PDF/SOIC_Narrow%20(R)/R_16.pdf
footprint ADI-R-16_N (SOIC, 16-Leads, Body 9.9x3.9mm, Pitch 1.27mm, IPC Medium Density)
footprint ADI-R-16_L (SOIC, 16-Leads, Body 9.9x3.9mm, Pitch 1.27mm, IPC High Density)
footprint ADI-R-16_M (SOIC, 16-Leads, Body 9.9x3.9mm, Pitch 1.27mm, IPC Low Density)
pins: 1 A0 (in) "Logic Control Input.", 2 EN (in) "Active High Digital Input. When low, the device is disabled and all switches are off. When high, Ax logic inputs determine on switches.", 3 VSS (power) "Most Negative Power Supply Potential.In single-supply applications, it can be connected to ground.", 4 S1A "Source Terminal 1A. Can be an input or an output.", 5 S2A "Source Terminal 2A. Can be an input or an output.", 6 S3A "Source Terminal 3A. Can be an input or an output.", 7 S4A "Source Terminal 4A. Can be an input or an output.", 8 DA "Drain Terminal A. Can be an input or an output.", 9 DB "Drain Terminal B. Can be an input or an output.", 10 S4B "Source Terminal 4B. Can be an input or an output.", 11 S3B "Source Terminal 3B. Can be an input or an output.", 12 S2B "Source Terminal 2B. Can be an input or an output.", 13 S1B "Source Terminal 1B. Can be an input or an output.", 14 VDD (power) "Most Positive Power Supply Potential.", 15 GND (power) "Ground (0 V) Reference.", 16 A1 (in) "Logic Control Input."

## ADG1219BRJZ-REEL7
designator U?
Low Capacitance, Low Charge Injection, +/-15 V / 12 V iCMOS SPDT, 120 Ohm / 300 Ohm Ron, 8-pin SOP (RJ-8), Reel; Manufacturer: Analog Devices; PartNumber: ADG1219BRJZ-REEL7; Bandwidth (Hz): 520M, 400M; Max Analog Signal Range: Vss to Vdd; Ron (ohms): 120; t transition (s): 140n; DatasheetVersion: Rev. A; PackageVersion: 121608-A, 12/2008; PackageReference: RJ-8; PackageDescription: 8-Pin Small Outline Transistor Package, Body 2.9 x 1.6 mm, Pitch 0.65 mm; Supplier 1: Digi-Key; Supplier Part Number 1: ADG1219BRJZ-REEL7TR-ND; Supplier 2: Digi-Key; Supplier Part Number 2: ADG1219BRJZ-REEL7CT-ND; Supplier 3: Digi-Key; Supplier Part Number 3: ADG1219BRJZ-REEL7DKR-ND; Supplier 4: Farnell; Supplier Part Number 4: 2376790; Supplier 5: Newark; Supplier Part Number 5: 23X5940; Supplier 6: Newark; Supplier Part Number 6: 98M0115; Supplier 7: Mouser; Supplier Part Number 7: 584-ADG1219BRJZ-R7; Packing: Reel; Mounting Technology: Surface Mount; Code_JEDEC: MO-178-BA; ComponentLink1Description: Manufacturer URL; ComponentLink1URL: http://www.analog.com/en/index.html; ComponentLink2Description: Datasheet; ComponentLink2URL: http://www.analog.com/static/imported-files/data_sheets/ADG1219.pdf; ComponentLink3Description: Package Specification; ComponentLink3URL: http://www.analog.com/static/imported-files/packages/PKG_PDF/SOT-23(RJ)/RJ_8.pdf
footprint ADI-RJ-8_V (SOT23, 8-Leads, Body 2.9x1.6mm, Pitch 0.65mm)
pins: 1 EN (in) "Active High Digital Input. When this pin is low, the device is disabled and all switches are turned off.When this pin is high, the IN logic input determines which switch is turned on.", 2 VDD (power) "Most Positive Power Supply Potential.", 3 GND (power) "Ground (0 V) Reference.", 4 VSS (power) "Most Negative Power Supply Potential.", 5 SB "Source Terminal. Can be an input or output.", 6 D "Drain Terminal. Can be an input or output.", 7 SA "Source Terminal. Can be an input or output.", 8 IN (in) "Logic Control Input."

## ADG1404YCPZ-REEL
designator U?
1.5 Ohm On Resistance, +/-15 V / 12 V / +/-5 V, 4:1, iCMOS Multiplexer, 16-pin QFN (CP-16-13), Reel; Manufacturer: Analog Devices; PartNumber: ADG1404YCPZ-REEL; Bandwidth (Hz): 55M, 35M, 40M; Max Analog Signal Range: Vss to Vdd; Ron (ohms): 1.5; t transition (s): 150n; DatasheetVersion: Rev. A; PackageVersion: 031006-A, 06/2006; PackageReference: CP-16-13; PackageDescription: 16-Pin Lead Frame Chip Scale Package, Body 4 x 4 mm, Pitch 0.65 mm; Supplier 1: Digi-Key; Supplier Part Number 1: ADG1404YCPZ-REELTR-ND; Supplier 2: Digi-Key; Supplier Part Number 2: ADG1404YCPZ-REELCT-ND; Supplier 3: Digi-Key; Supplier Part Number 3: ADG1404YCPZ-REELDKR-ND; Supplier 4: Newark; Supplier Part Number 4: 07P8864; Supplier 5: Mouser; Supplier Part Number 5: 584-ADG1404YCPZ-R; Packing: Reel; Mounting Technology: Surface Mount; Code_JEDEC: MO-220-VGGC.; ComponentLink1Description: Manufacturer URL; ComponentLink1URL: http://www.analog.com/en/index.html; ComponentLink2Description: Datasheet; ComponentLink2URL: http://www.analog.com/static/imported-files/data_sheets/ADG1404.pdf; ComponentLink3Description: Package Specification; ComponentLink3URL: http://www.analog.com/static/imported-files/packages/PKG_PDF/LFCSP(CP)/CP-16/CP_16_13.pdf
footprint ADI-CP-16-13_N (QFN, 16-Leads, Body 4x4mm, Pitch 0.65mm, Thermal Pad 2.5x2.5mm, IPC Medium Density)
footprint ADI-CP-16-13_L (QFN, 16-Leads, Body 4x4mm, Pitch 0.65mm, Thermal Pad 2.5x2.5mm, IPC High Density)
footprint ADI-CP-16-13_M (QFN, 16-Leads, Body 4x4mm, Pitch 0.65mm, Thermal Pad 2.5x2.5mm, IPC Low Density)
pins: 1 VSS (power) "Most Negative Power Supply Potential.", 2 NC "No Connection.", 3 S1 "Source Terminal. Can be an input or an output.", 4 S2 "Source Terminal. Can be an input or an output.", 5 NC "No Connection.", 6 D "Drain Terminal. Can be an input or an output.", 7 NC "No Connection.", 8 NC "No Connection.", 9 S4 "Source Terminal. Can be an input or an output.", 10 S3 "Source Terminal. Can be an input or an output.", 11 VDD (power) "Most Positive Power Supply Potential.", 12 GND (power) "Ground (0 V) Reference.", 13 NC "No Connection.", 14 A1 (in) "Logic Control Input.", 15 A0 (in) "Logic Control Input.", 16 EN (in) "Active High Digital Input. When this pin is low, the device is disabled and all switches are off. When this pin is high, the Ax logic inputs determine the on switches.", 17 EP (power) "EXPOSED PAD TIED TO SUBSTRATE, VSS."

## ADG1404YCPZ-REEL7
designator U?
1.5 Ohm On Resistance, +/-15 V / 12 V / +/-5 V, 4:1, iCMOS Multiplexer, 16-pin QFN (CP-16-13), Reel; Manufacturer: Analog Devices; PartNumber: ADG1404YCPZ-REEL7; Bandwidth (Hz): 55M, 35M, 40M; Max Analog Signal Range: Vss to Vdd; Ron (ohms): 1.5; t transition (s): 150n; DatasheetVersion: Rev. A; PackageVersion: 031006-A, 06/2006; PackageReference: CP-16-13; PackageDescription: 16-Pin Lead Frame Chip Scale Package, Body 4 x 4 mm, Pitch 0.65 mm; Supplier 1: Mouser; Supplier Part Number 1: N/A; Packing: Reel; Mounting Technology: Surface Mount; Code_JEDEC: MO-220-VGGC.; ComponentLink1Description: Manufacturer URL; ComponentLink1URL: http://www.analog.com/en/index.html; ComponentLink2Description: Datasheet; ComponentLink2URL: http://www.analog.com/static/imported-files/data_sheets/ADG1404.pdf; ComponentLink3Description: Package Specification; ComponentLink3URL: http://www.analog.com/static/imported-files/packages/PKG_PDF/LFCSP(CP)/CP-16/CP_16_13.pdf
footprint ADI-CP-16-13_N (QFN, 16-Leads, Body 4x4mm, Pitch 0.65mm, Thermal Pad 2.5x2.5mm, IPC Medium Density)
footprint ADI-CP-16-13_L (QFN, 16-Leads, Body 4x4mm, Pitch 0.65mm, Thermal Pad 2.5x2.5mm, IPC High Density)
footprint ADI-CP-16-13_M (QFN, 16-Leads, Body 4x4mm, Pitch 0.65mm, Thermal Pad 2.5x2.5mm, IPC Low Density)
pins: 1 VSS (power) "Most Negative Power Supply Potential.", 2 NC "No Connection.", 3 S1 "Source Terminal. Can be an input or an output.", 4 S2 "Source Terminal. Can be an input or an output.", 5 NC "No Connection.", 6 D "Drain Terminal. Can be an input or an output.", 7 NC "No Connection.", 8 NC "No Connection.", 9 S4 "Source Terminal. Can be an input or an output.", 10 S3 "Source Terminal. Can be an input or an output.", 11 VDD (power) "Most Positive Power Supply Potential.", 12 GND (power) "Ground (0 V) Reference.", 13 NC "No Connection.", 14 A1 (in) "Logic Control Input.", 15 A0 (in) "Logic Control Input.", 16 EN (in) "Active High Digital Input. When this pin is low, the device is disabled and all switches are off. When this pin is high, the Ax logic inputs determine the on switches.", 17 EP (power) "EXPOSED PAD TIED TO SUBSTRATE, VSS."

## ADG1404YRUZ
designator U?
1.5 Ohm On Resistance, +/-15 V / 12 V / +/-5 V, 4:1, iCMOS Multiplexer, 14-pin SOP (RU-14), Tube; Manufacturer: Analog Devices; PartNumber: ADG1404YRUZ; Bandwidth (Hz): 55M, 35M, 40M; Max Analog Signal Range: Vss to Vdd; Ron (ohms): 1.5; t transition (s): 150n; DatasheetVersion: Rev. A; PackageVersion: Aug-02; PackageReference: RU-14; PackageDescription: 14-Pin Thin Shrink Small Outline Package, Body 5 x 4.4 mm, Pitch 0.65 mm; Supplier 1: Digi-Key; Supplier Part Number 1: ADG1404YRUZ-ND; Supplier 2: Farnell; Supplier Part Number 2: 2305789; Supplier 3: Newark; Supplier Part Number 3: 84W7340; Supplier 4: Newark; Supplier Part Number 4: 07P8865; Supplier 5: Mouser; Supplier Part Number 5: 584-ADG1404YRUZ; Packing: Tube; Mounting Technology: Surface Mount; Code_JEDEC: MO-153AB-1; ComponentLink1Description: Manufacturer URL; ComponentLink1URL: http://www.analog.com/en/index.html; ComponentLink2Description: Datasheet; ComponentLink2URL: http://www.analog.com/static/imported-files/data_sheets/ADG1404.pdf; ComponentLink3Description: Package Specification; ComponentLink3URL: http://www.analog.com/static/imported-files/packages/36057385283879153717235186773RU14.pdf
footprint ADI-RU-14_N (SOP, 14-Leads, Body 5x4.4mm, Pitch 0.65mm, IPC Medium Density)
footprint ADI-RU-14_L (SOP, 14-Leads, Body 5x4.4mm, Pitch 0.65mm, IPC High Density)
footprint ADI-RU-14_M (SOP, 14-Leads, Body 5x4.4mm, Pitch 0.65mm, IPC Low Density)
pins: 1 A0 (in) "Logic Control Input.", 2 EN (in) "Active High Digital Input. When this pin is low, the device is disabled and all switches are off. When this pin is high, the Ax logic inputs determine the on switches.", 3 VSS (power) "Most Negative Power Supply Potential.", 4 S1 "Source Terminal. Can be an input or an output.", 5 S2 "Source Terminal. Can be an input or an output.", 6 D "Drain Terminal. Can be an input or an output.", 7 NC "No Connection.", 8 NC "No Connection.", 9 NC "No Connection.", 10 S4 "Source Terminal. Can be an input or an output.", 11 S3 "Source Terminal. Can be an input or an output.", 12 VDD (power) "Most Positive Power Supply Potential.", 13 GND (power) "Ground (0 V) Reference.", 14 A1 (in) "Logic Control Input."